# EAGLE library part RFM22 (library LMA)
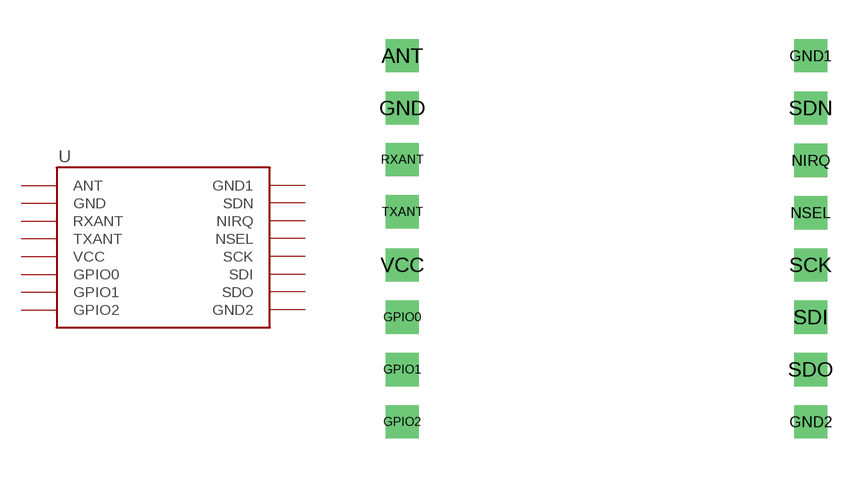
[diagram p4: symbol with the pads of RFM22; footprint RFM22]

Designator prefix -

## RFM22  [RFM22]
ANT  ANT
GND  GND
GND1  GND1
GND2  GND2
GPIO0  GPIO0
GPIO1  GPIO1
GPIO2  GPIO2
NIRQ  NIRQ
NSEL  NSEL
RXANT  RXANT
SCK  SCK
SDI  SDI
SDN  SDN
SDO  SDO
TXANT  TXANT
VCC  VCC

## Footprint RFM22 (pad centres in mm)
drill 0.7 pad 1.27 square: ANT -7.35,6.23; GND -7.35,4.23; GND1 8.25,6.23; GND2 8.25,-7.77; GPIO0 -7.35,-3.77; GPIO1 -7.35,-5.77; GPIO2 -7.35,-7.77; NIRQ 8.25,2.23; NSEL 8.25,0.23; RXANT -7.35,2.26; SCK 8.25,-1.77; SDI 8.25,-3.77; SDN 8.25,4.23; SDO 8.25,-5.77; TXANT -7.35,0.26; VCC -7.35,-1.77